# EAGLE library part PIC16F506 (library radish)
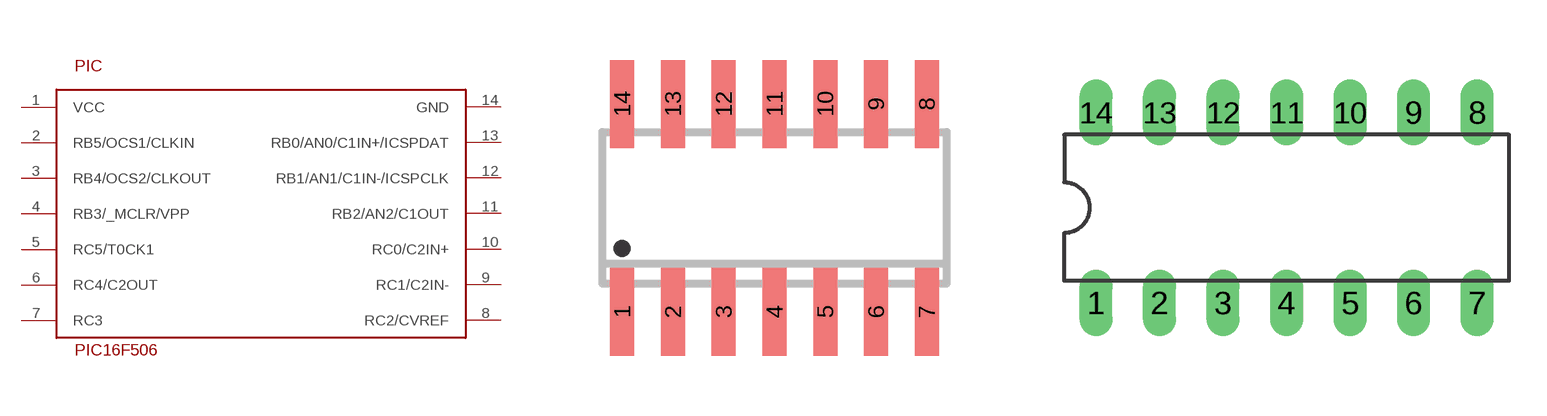
[diagram p3: symbol with the pads of SOIC14; footprints SOIC14, DIL14]

Designator prefix PIC

## PIC16F506-I/SL  [SOIC14]
1  VCC  in
2  RB5/OCS1/CLKIN
3  RB4/OCS2/CLKOUT
4  RB3/_MCLR/VPP  in
5  RC5/T0CK1
6  RC4/C2OUT
7  RC3
8  RC2/CVREF
9  RC1/C2IN-
10  RC0/C2IN+
11  RB2/AN2/C1OUT
12  RB1/AN1/C1IN-/ICSPCLK
13  RB0/AN0/C1IN+/ICSPDAT
14  GND  pwr

## PIC16F506-I/P  [DIL14]
Pads as for SOIC14

## Footprint SOIC14 (pad centres in mm)
Small Outline Narrow Plastic Gull Wing 150-mil body, package type SL
smd 0.6 x 2.2: 1 -3.81,-2.6; 2 -2.54,-2.6; 3 -1.27,-2.6; 4 0,-2.6; 5 1.27,-2.6; 6 2.54,-2.6; 7 3.81,-2.6; 8 3.81,2.6; 9 2.54,2.6; 10 1.27,2.6; 11 0,2.6; 12 -1.27,2.6; 13 -2.54,2.6; 14 -3.81,2.6

## Footprint DIL14 (pad centres in mm)
Dual In Line Package
drill 0.813 long: 1 -7.62,-3.81; 2 -5.08,-3.81; 3 -2.54,-3.81; 4 0,-3.81; 5 2.54,-3.81; 6 5.08,-3.81; 7 7.62,-3.81; 8 7.62,3.81; 9 5.08,3.81; 10 2.54,3.81; 11 0,3.81; 12 -2.54,3.81; 13 -5.08,3.81; 14 -7.62,3.81